# EAGLE library part 750341141 (library Midcom Inc - EAGLE Lib V2-0)
Package Style: Toroid Mounting: SMD Pins: 6 pins Bobbin: 250-1091 Best pinouts for production vary per application. Please contact Wurth Electronics Midcom, Inc. for assistance with your custom design. Website: Wurth Electronics Midcom <http://www.we-online.com/midcom> Contact us Wurth Electronics Midcom, Inc. 121 Airport Dr. Watertown, SD 57201 Phone: (605) 886-4385 Fax: (605) 886-4486 E-Mail: midcom@we-online.com
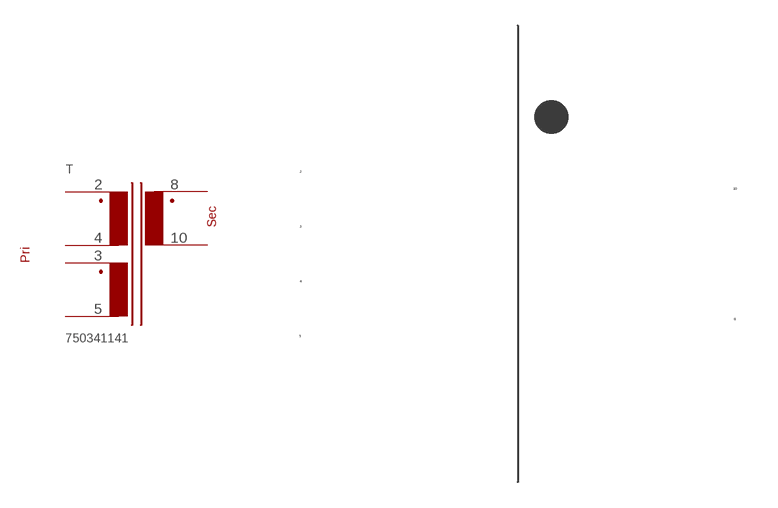
[diagram p243: symbol with the pads of TOROID_SMD_6PIN_(1091); footprint TOROID_SMD_6PIN_(1091)]

Designator prefix T

## 750341141  [TOROID_SMD_6PIN_(1091)]
2  2  pas
3  3  pas
4  4  pas
5  5  pas
8  8  pas
10  10  pas

## Footprint TOROID_SMD_6PIN_(1091) (pad centres in mm)
Package Style: Toroid Mounting: SMD Pins: 11 Bobbin: 250-1091
smd 1.981 x 0: 2 -12.7,4.801; 3 -12.7,1.6; 4 -12.7,-1.6; 5 -12.7,-4.801; 8 12.7,-3.81; 10 12.7,3.81